# Altium schematic symbol library AC781x_SCH_Symbol.SchLib: 2 symbols
Pins are listed as number, name and electrical type; pins without a type are passive.

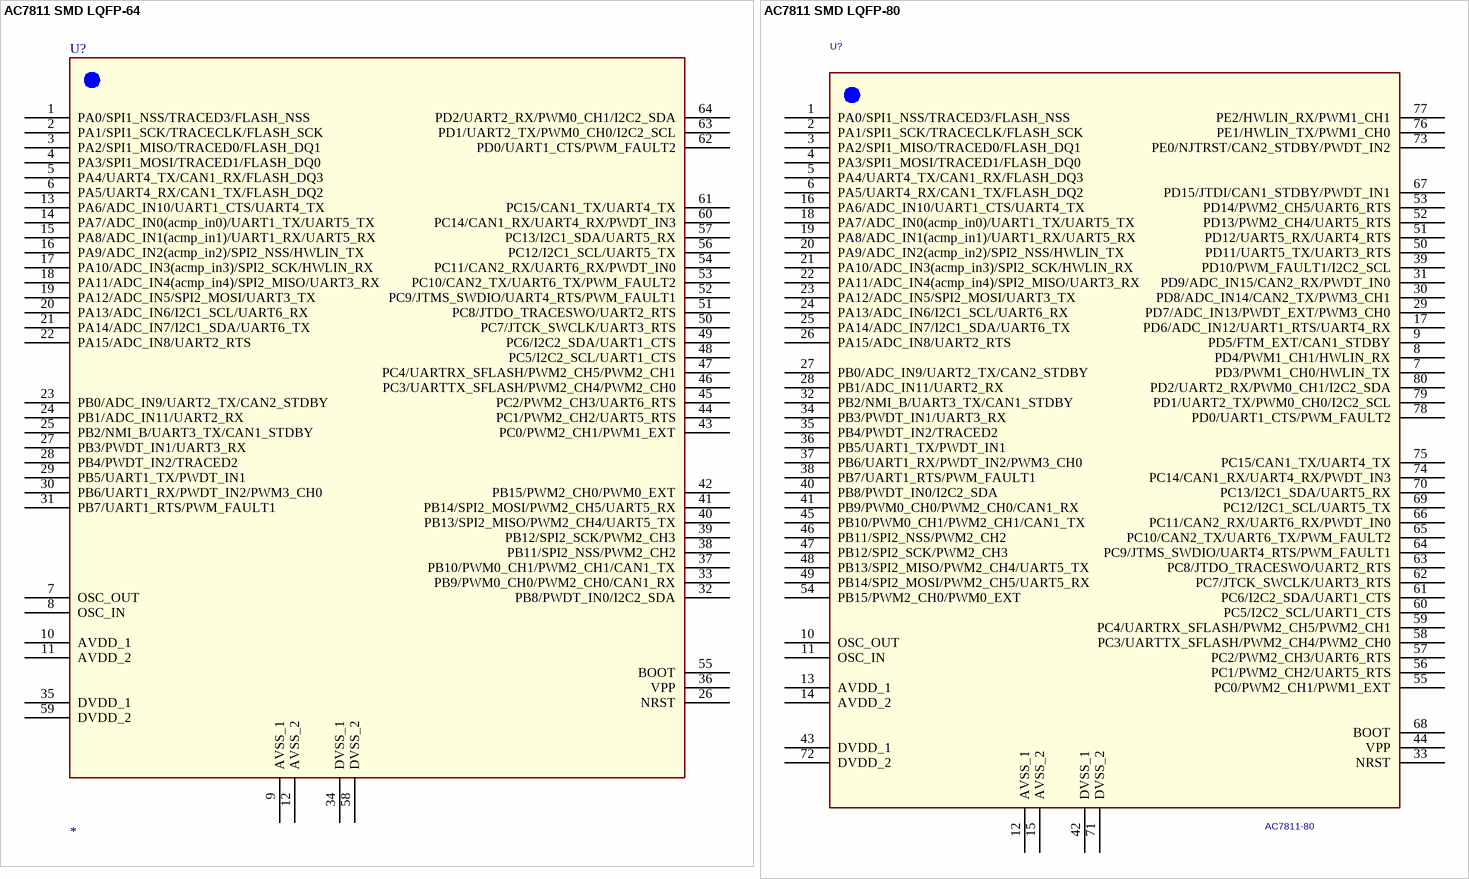
[diagram p0: symbols AC7811 SMD LQFP-64 to AC7811 SMD LQFP-80]

## AC7811 SMD LQFP-64
designator U?
footprint LQFP64/SMD
pins: 1 PA0/SPI1_NSS/TRACED3/FLASH_NSS, 2 PA1/SPI1_SCK/TRACECLK/FLASH_SCK, 3 PA2/SPI1_MISO/TRACED0/FLASH_DQ1, 4 PA3/SPI1_MOSI/TRACED1/FLASH_DQ0, 5 PA4/UART4_TX/CAN1_RX/FLASH_DQ3, 6 PA5/UART4_RX/CAN1_TX/FLASH_DQ2, 7 OSC_OUT, 8 OSC_IN, 9 AVSS_1, 10 AVDD_1, 11 AVDD_2, 12 AVSS_2, 13 PA6/ADC_IN10/UART1_CTS/UART4_TX, 14 PA7/ADC_IN0(acmp_in0)/UART1_TX/UART5_TX, 15 PA8/ADC_IN1(acmp_in1)/UART1_RX/UART5_RX, 16 PA9/ADC_IN2(acmp_in2)/SPI2_NSS/HWLIN_TX, 17 PA10/ADC_IN3(acmp_in3)/SPI2_SCK/HWLIN_RX, 18 PA11/ADC_IN4(acmp_in4)/SPI2_MISO/UART3_RX, 19 PA12/ADC_IN5/SPI2_MOSI/UART3_TX, 20 PA13/ADC_IN6/I2C1_SCL/UART6_RX, 21 PA14/ADC_IN7/I2C1_SDA/UART6_TX, 22 PA15/ADC_IN8/UART2_RTS, 23 PB0/ADC_IN9/UART2_TX/CAN2_STDBY, 24 PB1/ADC_IN11/UART2_RX, 25 PB2/NMI_B/UART3_TX/CAN1_STDBY, 26 NRST, 27 PB3/PWDT_IN1/UART3_RX, 28 PB4/PWDT_IN2/TRACED2, 29 PB5/UART1_TX/PWDT_IN1, 30 PB6/UART1_RX/PWDT_IN2/PWM3_CH0, 31 PB7/UART1_RTS/PWM_FAULT1, 32 PB8/PWDT_IN0/I2C2_SDA, 33 PB9/PWM0_CH0/PWM2_CH0/CAN1_RX, 34 DVSS_1, 35 DVDD_1, 36 VPP, 37 PB10/PWM0_CH1/PWM2_CH1/CAN1_TX, 38 PB11/SPI2_NSS/PWM2_CH2, 39 PB12/SPI2_SCK/PWM2_CH3, 40 PB13/SPI2_MISO/PWM2_CH4/UART5_TX, 41 PB14/SPI2_MOSI/PWM2_CH5/UART5_RX, 42 PB15/PWM2_CH0/PWM0_EXT, 43 PC0/PWM2_CH1/PWM1_EXT, 44 PC1/PWM2_CH2/UART5_RTS, 45 PC2/PWM2_CH3/UART6_RTS, 46 PC3/UARTTX_SFLASH/PWM2_CH4/PWM2_CH0, 47 PC4/UARTRX_SFLASH/PWM2_CH5/PWM2_CH1, 48 PC5/I2C2_SCL/UART1_CTS, 49 PC6/I2C2_SDA/UART1_CTS, 50 PC7/JTCK_SWCLK/UART3_RTS, 51 PC8/JTDO_TRACESWO/UART2_RTS, 52 PC9/JTMS_SWDIO/UART4_RTS/PWM_FAULT1, 53 PC10/CAN2_TX/UART6_TX/PWM_FAULT2, 54 PC11/CAN2_RX/UART6_RX/PWDT_IN0, 55 BOOT, 56 PC12/I2C1_SCL/UART5_TX, 57 PC13/I2C1_SDA/UART5_RX, 58 DVSS_2, 59 DVDD_2, 60 PC14/CAN1_RX/UART4_RX/PWDT_IN3, 61 PC15/CAN1_TX/UART4_TX, 62 PD0/UART1_CTS/PWM_FAULT2, 63 PD1/UART2_TX/PWM0_CH0/I2C2_SCL, 64 PD2/UART2_RX/PWM0_CH1/I2C2_SDA

## AC7811 SMD LQFP-80
designator U?, comment AC7811-80
footprint LQFP80/SMD
footprint AC7811/LQFP80/SMD/P0.4/10X10
pins: 1 PA0/SPI1_NSS/TRACED3/FLASH_NSS, 2 PA1/SPI1_SCK/TRACECLK/FLASH_SCK, 3 PA2/SPI1_MISO/TRACED0/FLASH_DQ1, 4 PA3/SPI1_MOSI/TRACED1/FLASH_DQ0, 5 PA4/UART4_TX/CAN1_RX/FLASH_DQ3, 6 PA5/UART4_RX/CAN1_TX/FLASH_DQ2, 7 PD3/PWM1_CH0/HWLIN_TX, 8 PD4/PWM1_CH1/HWLIN_RX, 9 PD5/FTM_EXT/CAN1_STDBY, 10 OSC_OUT, 11 OSC_IN, 12 AVSS_1, 13 AVDD_1, 14 AVDD_2, 15 AVSS_2, 16 PA6/ADC_IN10/UART1_CTS/UART4_TX, 17 PD6/ADC_IN12/UART1_RTS/UART4_RX, 18 PA7/ADC_IN0(acmp_in0)/UART1_TX/UART5_TX, 19 PA8/ADC_IN1(acmp_in1)/UART1_RX/UART5_RX, 20 PA9/ADC_IN2(acmp_in2)/SPI2_NSS/HWLIN_TX, 21 PA10/ADC_IN3(acmp_in3)/SPI2_SCK/HWLIN_RX, 22 PA11/ADC_IN4(acmp_in4)/SPI2_MISO/UART3_RX, 23 PA12/ADC_IN5/SPI2_MOSI/UART3_TX, 24 PA13/ADC_IN6/I2C1_SCL/UART6_RX, 25 PA14/ADC_IN7/I2C1_SDA/UART6_TX, 26 PA15/ADC_IN8/UART2_RTS, 27 PB0/ADC_IN9/UART2_TX/CAN2_STDBY, 28 PB1/ADC_IN11/UART2_RX, 29 PD7/ADC_IN13/PWDT_EXT/PWM3_CH0, 30 PD8/ADC_IN14/CAN2_TX/PWM3_CH1, 31 PD9/ADC_IN15/CAN2_RX/PWDT_IN0, 32 PB2/NMI_B/UART3_TX/CAN1_STDBY, 33 NRST, 34 PB3/PWDT_IN1/UART3_RX, 35 PB4/PWDT_IN2/TRACED2, 36 PB5/UART1_TX/PWDT_IN1, 37 PB6/UART1_RX/PWDT_IN2/PWM3_CH0, 38 PB7/UART1_RTS/PWM_FAULT1, 39 PD10/PWM_FAULT1/I2C2_SCL, 40 PB8/PWDT_IN0/I2C2_SDA, 41 PB9/PWM0_CH0/PWM2_CH0/CAN1_RX, 42 DVSS_1, 43 DVDD_1, 44 VPP, 45 PB10/PWM0_CH1/PWM2_CH1/CAN1_TX, 46 PB11/SPI2_NSS/PWM2_CH2, 47 PB12/SPI2_SCK/PWM2_CH3, 48 PB13/SPI2_MISO/PWM2_CH4/UART5_TX, 49 PB14/SPI2_MOSI/PWM2_CH5/UART5_RX, 50 PD11/UART5_TX/UART3_RTS, 51 PD12/UART5_RX/UART4_RTS, 52 PD13/PWM2_CH4/UART5_RTS, 53 PD14/PWM2_CH5/UART6_RTS, 54 PB15/PWM2_CH0/PWM0_EXT, 55 PC0/PWM2_CH1/PWM1_EXT, 56 PC1/PWM2_CH2/UART5_RTS, 57 PC2/PWM2_CH3/UART6_RTS, 58 PC3/UARTTX_SFLASH/PWM2_CH4/PWM2_CH0, 59 PC4/UARTRX_SFLASH/PWM2_CH5/PWM2_CH1, 60 PC5/I2C2_SCL/UART1_CTS, 61 PC6/I2C2_SDA/UART1_CTS, 62 PC7/JTCK_SWCLK/UART3_RTS, 63 PC8/JTDO_TRACESWO/UART2_RTS, 64 PC9/JTMS_SWDIO/UART4_RTS/PWM_FAULT1, 65 PC10/CAN2_TX/UART6_TX/PWM_FAULT2, 66 PC11/CAN2_RX/UART6_RX/PWDT_IN0, 67 PD15/JTDI/CAN1_STDBY/PWDT_IN1, 68 BOOT, 69 PC12/I2C1_SCL/UART5_TX, 70 PC13/I2C1_SDA/UART5_RX, 71 DVSS_2, 72 DVDD_2, 73 PE0/NJTRST/CAN2_STDBY/PWDT_IN2, 74 PC14/CAN1_RX/UART4_RX/PWDT_IN3, 75 PC15/CAN1_TX/UART4_TX, 76 PE1/HWLIN_TX/PWM1_CH0, 77 PE2/HWLIN_RX/PWM1_CH1, 78 PD0/UART1_CTS/PWM_FAULT2, 79 PD1/UART2_TX/PWM0_CH0/I2C2_SCL, 80 PD2/UART2_RX/PWM0_CH1/I2C2_SDA